# EAGLE library part TPA6120A2DWP (library TPA6120A2DWP)
High Fidelity Stereo Headphone Amplifier 20-SO PowerPAD -40 to 85
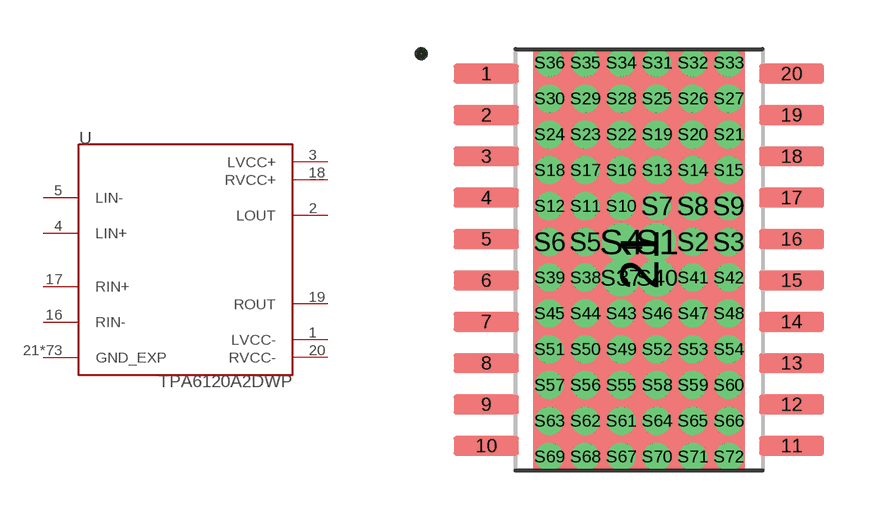
[diagram p0: symbol with the pads of SOIC127P1040X265-21N; footprint SOIC127P1040X265-21N]

Designator prefix U

## TPA6120A2DWP (AVAILABILITY: Unavailable; DESCRIPTION: High Fidelity Stereo Headphone Amplifier 20-SO PowerPAD -40 to 85; MF: Texas Instruments; MP: TPA6120A2DWP; PACKAGE: SO-20 Texas Instruments; PRICE: None)  [SOIC127P1040X265-21N]
1  LVCC-  pwr
2  LOUT  out
3  LVCC+  pwr
4  LIN+  in
5  LIN-  in
16  RIN-  in
17  RIN+  in
18  RVCC+  pwr
19  ROUT  out
20  RVCC-  pwr
21  GND_EXP  pwr
S1  GND_EXP  pwr
S2  GND_EXP  pwr
S3  GND_EXP  pwr
S4  GND_EXP  pwr
S5  GND_EXP  pwr
S6  GND_EXP  pwr
S7  GND_EXP  pwr
S8  GND_EXP  pwr
S9  GND_EXP  pwr
S10  GND_EXP  pwr
S11  GND_EXP  pwr
S12  GND_EXP  pwr
S13  GND_EXP  pwr
S14  GND_EXP  pwr
S15  GND_EXP  pwr
S16  GND_EXP  pwr
S17  GND_EXP  pwr
S18  GND_EXP  pwr
S19  GND_EXP  pwr
S20  GND_EXP  pwr
S21  GND_EXP  pwr
S22  GND_EXP  pwr
S23  GND_EXP  pwr
S24  GND_EXP  pwr
S25  GND_EXP  pwr
S26  GND_EXP  pwr
S27  GND_EXP  pwr
S28  GND_EXP  pwr
S29  GND_EXP  pwr
S30  GND_EXP  pwr
S31  GND_EXP  pwr
S32  GND_EXP  pwr
S33  GND_EXP  pwr
S34  GND_EXP  pwr
S35  GND_EXP  pwr
S36  GND_EXP  pwr
S37  GND_EXP  pwr
S38  GND_EXP  pwr
S39  GND_EXP  pwr
S40  GND_EXP  pwr
S41  GND_EXP  pwr
S42  GND_EXP  pwr
S43  GND_EXP  pwr
S44  GND_EXP  pwr
S45  GND_EXP  pwr
S46  GND_EXP  pwr
S47  GND_EXP  pwr
S48  GND_EXP  pwr
S49  GND_EXP  pwr
S50  GND_EXP  pwr
S51  GND_EXP  pwr
S52  GND_EXP  pwr
S53  GND_EXP  pwr
S54  GND_EXP  pwr
S55  GND_EXP  pwr
S56  GND_EXP  pwr
S57  GND_EXP  pwr
S58  GND_EXP  pwr
S59  GND_EXP  pwr
S60  GND_EXP  pwr
S61  GND_EXP  pwr
S62  GND_EXP  pwr
S63  GND_EXP  pwr
S64  GND_EXP  pwr
S65  GND_EXP  pwr
S66  GND_EXP  pwr
S67  GND_EXP  pwr
S68  GND_EXP  pwr
S69  GND_EXP  pwr
S70  GND_EXP  pwr
S71  GND_EXP  pwr
S72  GND_EXP  pwr

## Footprint SOIC127P1040X265-21N (pad centres in mm)
smd 2 x 0.61: 1 -4.685,5.715; 2 -4.685,4.445; 3 -4.685,3.175; 4 -4.685,1.905; 5 -4.685,0.635; 6 -4.685,-0.635; 7 -4.685,-1.905; 8 -4.685,-3.175; 9 -4.685,-4.445; 10 -4.685,-5.715; 11 4.685,-5.715; 12 4.685,-4.445; 13 4.685,-3.175; 14 4.685,-1.905; 15 4.685,-0.635; 16 4.685,0.635; 17 4.685,1.905; 18 4.685,3.175; 19 4.685,4.445; 20 4.685,5.715
smd 6.5 x 12.83: 21 0,0
drill 0.65: S1 0.55,0.55; S4 -0.55,0.55; S37 -0.55,-0.55; S40 0.55,-0.55
drill 0.35 pad 0.61: S2 1.65,0.55; S3 2.75,0.55; S5 -1.65,0.55; S6 -2.75,0.55; S7 0.55,1.65; S8 1.65,1.65; S9 2.75,1.65; S10 -0.55,1.65; S11 -1.65,1.65; S12 -2.75,1.65; S13 0.55,2.75; S14 1.65,2.75; S15 2.75,2.75; S16 -0.55,2.75; S17 -1.65,2.75; S18 -2.75,2.75; S19 0.55,3.85; S20 1.65,3.85; S21 2.75,3.85; S22 -0.55,3.85; S23 -1.65,3.85; S24 -2.75,3.85; S25 0.55,4.95; S26 1.65,4.95; S27 2.75,4.95; S28 -0.55,4.95; S29 -1.65,4.95; S30 -2.75,4.95; S31 0.55,6.05; S32 1.65,6.05; S33 2.75,6.05; S34 -0.55,6.05; S35 -1.65,6.05; S36 -2.75,6.05; S38 -1.65,-0.55; S39 -2.75,-0.55; S41 1.65,-0.55; S42 2.75,-0.55; S43 -0.55,-1.65; S44 -1.65,-1.65; S45 -2.75,-1.65; S46 0.55,-1.65; S47 1.65,-1.65; S48 2.75,-1.65; S49 -0.55,-2.75; S50 -1.65,-2.75; S51 -2.75,-2.75; S52 0.55,-2.75; S53 1.65,-2.75; S54 2.75,-2.75; S55 -0.55,-3.85; S56 -1.65,-3.85; S57 -2.75,-3.85; S58 0.55,-3.85; S59 1.65,-3.85; S60 2.75,-3.85; S61 -0.55,-4.95; S62 -1.65,-4.95; S63 -2.75,-4.95; S64 0.55,-4.95; S65 1.65,-4.95; S66 2.75,-4.95; S67 -0.55,-6.05; S68 -1.65,-6.05; S69 -2.75,-6.05; S70 0.55,-6.05; S71 1.65,-6.05; S72 2.75,-6.05